# Altium footprint library PcbLib.PcbLib: 59 footprints (part 2 of 4)
Each footprint in its own frame and in the unit in brackets; x right, y up, seen from the top. Pads: shape width x height; smd on the part's side, far side on the other; paste and mask are expansions set on the pad; w line width, h text height; cw(c..) or ccw(c..) is an arc to the next point about the centre after c.
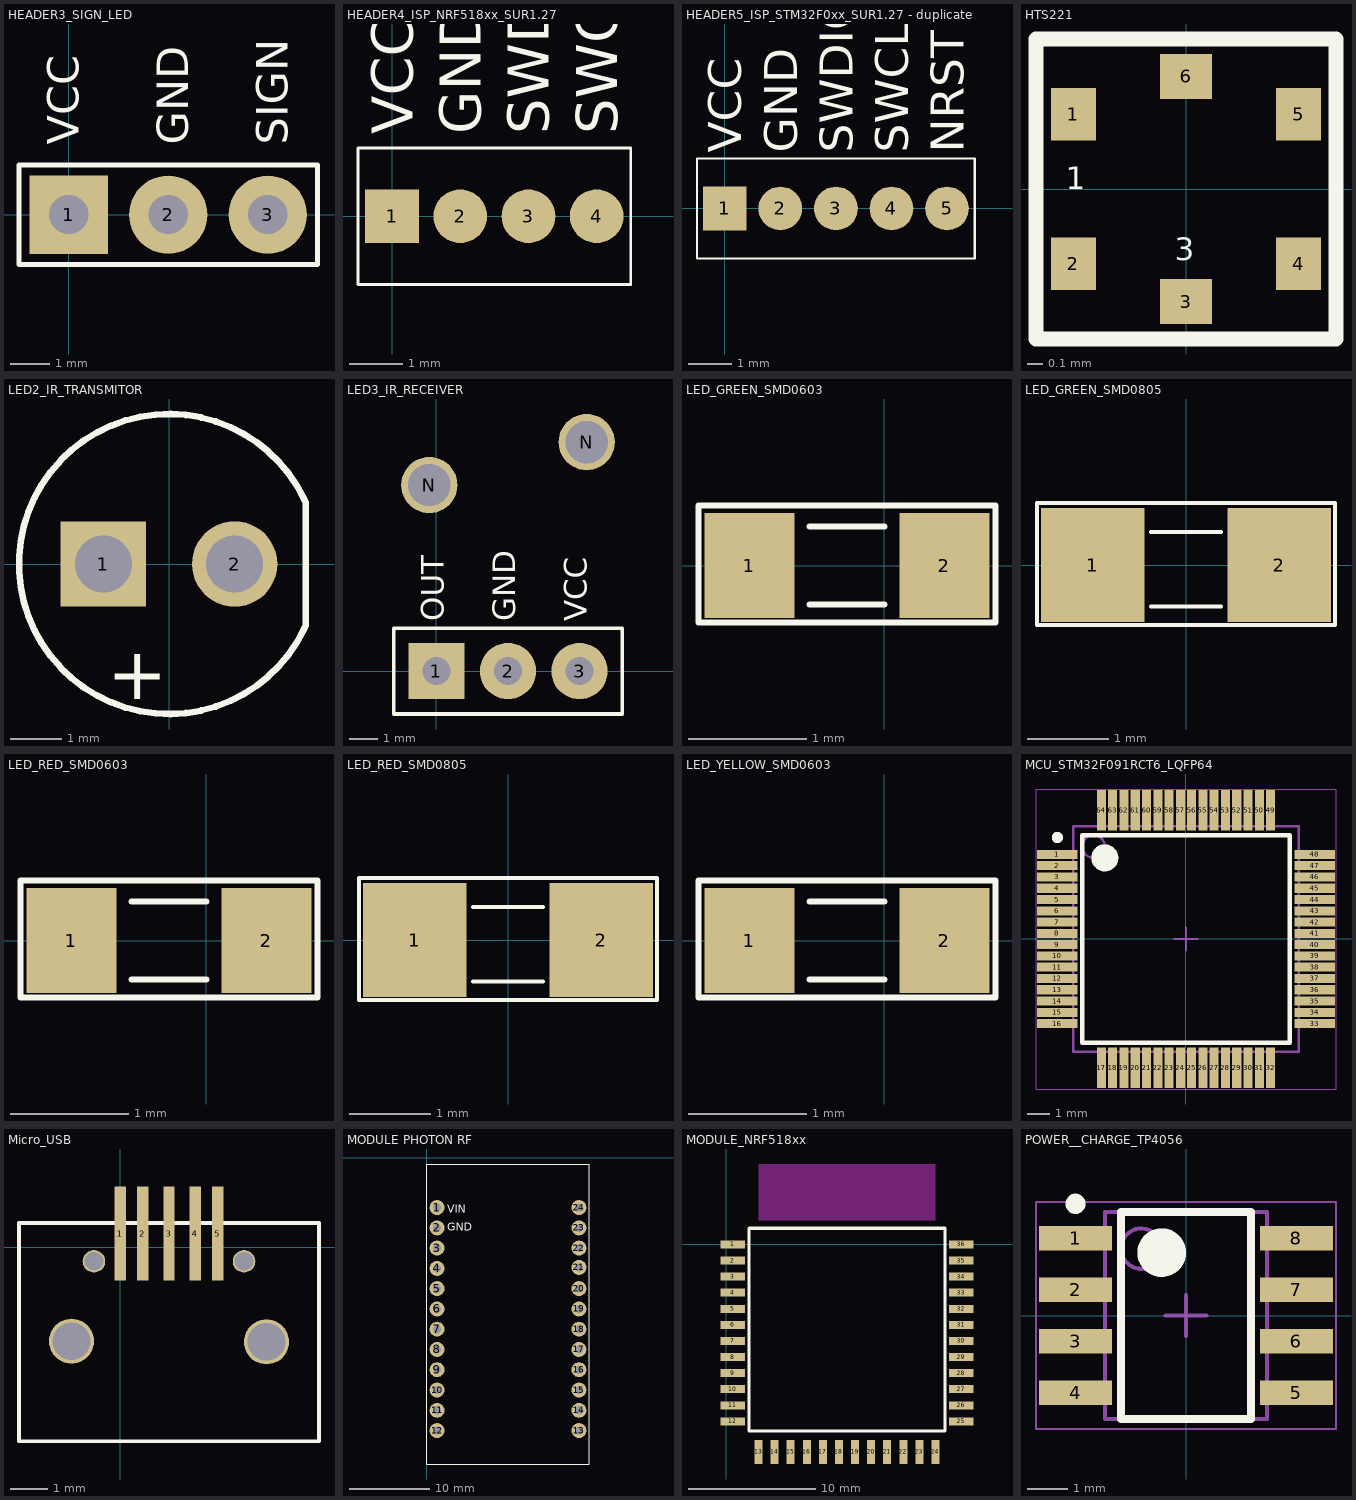
[diagram p1: the footprints below, top view; thin cyan lines are the x and y axes]

## HEADER3_SIGN_LED [mm] "HEADER, SINGLE, DISTANCE = 100mil"
pads (3):
  rect 2x2 hole 1: 1(0,0)
  round 2 hole 1: 2(2.54,0) 3(5.08,0)
Top Overlay:
  lines w0.127: -1.27,-1.27 -1.27,1.27 6.35,1.27 6.35,-1.27 -1.27,-1.27
  text "SIGN" at 5.588,1.778 h0.8
  text "GND" at 3.048,1.778 h0.8
  text "VCC" at 0.254,1.778 h0.8
3D body "User Library-Header_Male_3Pin.STEP": height 8.54, standoff -3, extent -1.27,-1.27 6.35,1.22

## HEADER4_ISP_NRF518xx_SUR1.27 [mm] "HEADER, SINGLE, DISTANCE = 100mil"
pads (4):
  rect 1x1 smd: 1(0,0)
  round 1 smd: 2(1.27,0) 3(2.54,0) 4(3.81,0)
Top Overlay:
  lines w0.051: -0.635,-1.27 4.445,-1.27 4.445,1.27 -0.635,1.27 -0.635,-1.27
  text "SWCLK" at 4.191,1.524 h0.76
  text "SWDIO" at 2.921,1.524 h0.76
  text "GND" at 1.651,1.524 h0.76
  text "VCC" at 0.381,1.524 h0.76
3D body "User Library-PinHeader1_27_2.STEP": height 5, standoff -2.3, extent 1.905,-1.2 4.445,1.2
3D body "User Library-PinHeader1_27_2.STEP": height 5, standoff -2.3, extent -0.635,-1.19 1.905,1.21

## HEADER5_ISP_STM32F0xx_SUR1.27 - duplicate [mm] "HEADER, SINGLE, DISTANCE = 100mil"
pads (5):
  rect 1x1 smd: 1(0,0)
  round 1 smd: 2(1.27,0) 3(2.54,0) 4(3.81,0) 5(5.08,0)
Top Overlay:
  lines w0.051: -0.635,-1.143 -0.635,1.143 5.715,1.143 5.715,-1.143 -0.635,-1.143
  text "VCC" at 0.381,1.27 h0.76
  text "GND" at 1.651,1.27 h0.76
  text "SWDIO" at 2.921,1.27 h0.76
  text "SWCLK" at 4.191,1.27 h0.76
  text "NRST" at 5.461,1.27 h0.76
3D body "User Library-PinHeader1_27_2.STEP": height 5, standoff -2.3, extent -0.635,-1.2 1.905,1.2
3D body "User Library-PinHeader1_27_2.STEP": height 5, standoff -2.3, extent 1.905,-1.2 4.445,1.2

## HTS221 [mm]
pads (6):
  rect 0.3x0.35 smd mask+0.05: 1(-0.75,0.5) 2(-0.75,-0.5) 4(0.75,-0.5) 5(0.75,0.5)
  rect 0.35x0.3 smd mask+0.05: 3(0,-0.75) 6(0,0.75)
Top Overlay:
  lines w0.1: -1,-1 -1,1 1,1 1,-1 -1,-1
  text "3" at -0.075,-0.475 h0.15
  text "1" at -0.8,0 h0.15

## LED2_IR_TRANSMITOR [mil] "LED phi 5mm"
height 649.61
pads (2):
  rect 65x65 hole 43.31: 1(-50,0)
  round 65 hole 43.31: 2(50,0)
Top Overlay:
  lines w5: 103.49,-48.23 cw(c0,0) 103.49,48.23 ; 104,-47 104,46.9
  text "+" at -47,-103 h40
3D body "User Library-LED5MM.step": height 496.06, standoff -118.11, extent -116.14,-118.13 116.14,114.15

## LED3_IR_RECEIVER [mm] "HEADER, SINGLE, DISTANCE = 100mil"
pads (5):
  rect 2x2 hole 1: 1(0,0)
  round 2 hole 1: 2(2.54,0) 3(5.08,0)
  round 2 hole 1.5: N(-0.254,6.604) N(5.334,8.128)
Top Overlay:
  lines w0.127: -1.524,-1.524 6.604,-1.524 6.604,1.524 -1.524,1.524 -1.524,-1.524
  text "OUT" at 0.254,1.778 h0.8
  text "GND" at 2.794,1.778 h0.8
  text "VCC" at 5.334,1.778 h0.8
3D body "User Library-GP1UE26.step": height 7.1, standoff -3.6, extent -0.704,-0.328 6.096,9.472

## LED_GREEN_SMD0603 [mil] "Compoment SMD 60x30mil"
height 50
pads (2):
  rect 30x35 smd: 1(-45,0) 2(20,0)
Top Overlay:
  lines w2: -25,-13 0,-13 ; -25,13 0,13 ; -62,-19 -52.75,-19 -0.25,-19 37,-19 37,20 -62,20 -62,-19
3D body "User Library-LED_0603_G.STEP": height 23.62, standoff -0.08, extent -46.49,-15.74 16.51,15.75

## LED_GREEN_SMD0805 [mil] "Compoment SMD 80x50mil"
height 50
pads (2):
  rect 50x55 smd: 1(-45,0) 2(45,0)
Top Overlay:
  lines w2: -17,-20 17,-20 ; -17,16 17,16 ; -72,-29 -72,30 72,30 72,-29 -72,-29
3D body "SML-210PTT86.stp": height 31.5, standoff 0, extent -39.36,-24.6 39.38,24.61

## LED_RED_SMD0603 [mil] "Compoment SMD 60x30mil"
height 50
pads (2):
  rect 30x35 smd: 1(-45,0) 2(20,0)
Top Overlay:
  lines w2: -25,-13 0,-13 ; -25,13 0,13 ; -62,-19 -52.75,-19 -0.25,-19 37,-19 37,20 -62,20 -62,-19
3D body "User Library-LED_0603_R.STEP": height 23.62, standoff -0.08, extent -46.49,-15.74 16.51,15.75

## LED_RED_SMD0805 [mil] "Compoment SMD 80x50mil"
height 50
pads (2):
  rect 50x55 smd: 1(-45,0) 2(45,0)
Top Overlay:
  lines w2: -17,-20 17,-20 ; -17,16 17,16 ; -72,-29 -72,30 72,30 72,-29 -72,-29
3D body "User Library-CHIPLED-0805.step": height 35.43, standoff -0.39, extent -41.34,-26.57 41.34,26.58

## LED_YELLOW_SMD0603 [mil] "Compoment SMD 60x30mil"
height 50
pads (2):
  rect 30x35 smd: 1(-45,0) 2(20,0)
Top Overlay:
  lines w2: -25,-13 0,-13 ; -25,13 0,13 ; -62,-19 -52.75,-19 -0.25,-19 37,-19 37,20 -62,20 -62,-19
3D body "User Library-LED_0603_Y.STEP": height 23.62, standoff -0.08, extent -46.49,-15.74 16.51,15.75

## MCU_STM32F091RCT6_LQFP64 [mm] "STM32F091RCT6 LQFP64"
height 1.6
pads (64):
  rect 1.8x0.4 smd: 1(-5.7,3.75) 2(-5.7,3.25) 3(-5.7,2.75) 4(-5.7,2.25) 5(-5.7,1.75) 6(-5.7,1.25) 7(-5.7,0.75) 8(-5.7,0.25) 9(-5.7,-0.25) 10(-5.7,-0.75) 11(-5.7,-1.25) 12(-5.7,-1.75) 13(-5.7,-2.25) 14(-5.7,-2.75) 15(-5.7,-3.25) 16(-5.7,-3.75) 33(5.7,-3.75) 34(5.7,-3.25) 35(5.7,-2.75) 36(5.7,-2.25) 37(5.7,-1.75) 38(5.7,-1.25) 39(5.7,-0.75) 40(5.7,-0.25) 41(5.7,0.25) 42(5.7,0.75) 43(5.7,1.25) 44(5.7,1.75) 45(5.7,2.25) 46(5.7,2.75) 47(5.7,3.25) 48(5.7,3.75)
  rect 0.4x1.8 smd: 17(-3.75,-5.7) 18(-3.25,-5.7) 19(-2.75,-5.7) 20(-2.25,-5.7) 21(-1.75,-5.7) 22(-1.25,-5.7) 23(-0.75,-5.7) 24(-0.25,-5.7) 25(0.25,-5.7) 26(0.75,-5.7) 27(1.25,-5.7) 28(1.75,-5.7) 29(2.25,-5.7) 30(2.75,-5.7) 31(3.25,-5.7) 32(3.75,-5.7) 49(3.75,5.7) 50(3.25,5.7) 51(2.75,5.7) 52(2.25,5.7) 53(1.75,5.7) 54(1.25,5.7) 55(0.75,5.7) 56(0.25,5.7) 57(-0.25,5.7) 58(-0.75,5.7) 59(-1.25,5.7) 60(-1.75,5.7) 61(-2.25,5.7) 62(-2.75,5.7) 63(-3.25,5.7) 64(-3.75,5.7)
Top Overlay:
  circle w0.6: c-3.6,3.6 r0.3
  circle w0.25: c-5.7,4.5 r0.125
  lines w0.2: -4.6,-4.6 4.6,-4.6 4.6,4.6 -4.6,4.6 -4.6,-4.6
Mechanical 13:
  circle w0.1: c-4.1,4.1 r0.5
  lines w0.1: -5,-5 5,-5 5,5 -5,5 -5,-5
Mechanical 15:
  lines w0.05: -6.65,-6.65 6.65,-6.65 6.65,6.65 -6.65,6.65 -6.65,-6.65
  lines w0.1: -0.5,0 0.5,0 ; 0,-0.5 0,0.5
3D body "User Library-LQFP64_Grid_0_5.STEP": height 1.6, standoff 0, extent -6,-6 6,6

## Micro_USB [mm]
pads (9):
  rect 0.3x2.5 smd mask+0.05: 1(0,0.37) 2(0.6,0.37) 3(1.3,0.37) 4(2,0.37) 5(2.6,0.37)
  round 1.2 hole 1 mask+0.05: ""(-1.3,-2.5) ""(3.9,-2.52)
  round 0.6 hole 0.5 mask+0.05: ""(-0.7,-0.37) ""(3.3,-0.37)
Top Overlay:
  lines w0.1: -2.7,-5.17 -2.7,0.65 5.3,0.65 5.3,-5.17 -2.7,-5.17
3D body "User Library-10104111.STEP": height 2.77, standoff -0.3, extent -3.1,-5.116 5.7,0.509

## MODULE PHOTON RF [mil]
pads (24):
  round 74 hole 40: 1(50,-245) 2(50,-345) 3(50,-445) 4(50,-545) 5(50,-645) 6(50,-745) 7(50,-845) 8(50,-945) 9(50,-1045) 10(50,-1145) 11(50,-1245) 12(50,-1345) 13(750,-1345) 14(750,-1245) 15(750,-1145) 16(750,-1045) 17(750,-945) 18(750,-845) 19(750,-745) 20(750,-645) 21(750,-540) 22(750,-445) 23(750,-345) 24(750,-245)
Top Overlay:
  lines w5.12: 0,-1510 0,-30 800,-30 800,-1510 0,-1510
  text "GND" at 100,-360 h40
  text "VIN" at 100,-270 h40
3D body "13345.STEP": height 294, standoff -241.83, extent -1,-1512.2 801,-30

## MODULE_NRF518xx [mil] "MODULE BLE NRF51822 Madeby TUAN ANH"
pads (36):
  rect 75x25 smd: 1(20,0) 2(20,-50) 3(20,-100) 4(20,-150) 5(20,-200) 6(20,-250) 7(20,-300) 8(20,-350) 9(20,-400) 10(20,-450) 11(20,-500) 12(20,-550) 25(730,-550) 26(730,-500) 27(730,-450) 28(730,-400) 29(730,-350) 30(730,-300) 31(730,-250) 32(730,-200) 33(730,-150) 34(730,-100) 35(730,-50) 36(730,0)
  rect 25x75 smd: 13(100,-645) 14(150,-645) 15(200,-645) 16(250,-645) 17(300,-645) 18(350,-645) 19(400,-645) 20(450,-645) 21(500,-645) 22(550,-645) 23(600,-645) 24(650,-645)
Top Overlay:
  lines w10: 70,-580 70,50 680,50 680,-580 70,-580
Keep-Out Layer:
  region: 100,250 100,75 650,75 650,250
3D body: height 19.68, standoff 1.97, extent 20,-10 70,10
3D body: height 19.68, standoff 1.97, extent 20,-60 70,-40
3D body: height 19.68, standoff 1.97, extent 20,-110 70,-90
3D body: height 19.68, standoff 1.97, extent 20,-160 70,-140
3D body: height 19.68, standoff 1.97, extent 20,-210 70,-190
3D body: height 19.68, standoff 1.97, extent 20,-260 70,-240
3D body: height 19.68, standoff 1.97, extent 20,-310 70,-290
3D body: height 19.68, standoff 1.97, extent 20,-360 70,-340
3D body: height 19.68, standoff 1.97, extent 20,-410 70,-390
3D body: height 19.68, standoff 1.97, extent 20,-460 70,-440
3D body: height 19.68, standoff 1.97, extent 20,-510 70,-490
3D body: height 19.68, standoff 1.97, extent 20,-560 70,-540
3D body: height 19.68, standoff 1.97, extent 90,-630 110,-580
3D body: height 19.68, standoff 1.97, extent 140,-630 160,-580
3D body: height 19.68, standoff 1.97, extent 190,-630 210,-580
3D body: height 19.68, standoff 1.97, extent 240,-630 260,-580
3D body: height 19.68, standoff 1.97, extent 290,-630 310,-580
3D body: height 19.68, standoff 1.97, extent 340,-630 360,-580
3D body: height 19.68, standoff 1.97, extent 390,-630 410,-580
3D body: height 19.68, standoff 1.97, extent 440,-630 460,-580
3D body: height 19.68, standoff 1.97, extent 490,-630 510,-580
3D body: height 19.68, standoff 1.97, extent 540,-630 560,-580
3D body: height 19.68, standoff 1.97, extent 590,-630 610,-580
3D body: height 19.68, standoff 1.97, extent 640,-630 660,-580
3D body: height 19.68, standoff 1.97, extent 680,-560 730,-540
3D body: height 19.68, standoff 1.97, extent 680,-510 730,-490
3D body: height 19.68, standoff 1.97, extent 680,-460 730,-440
3D body: height 19.68, standoff 1.97, extent 680,-410 730,-390
3D body: height 19.68, standoff 1.97, extent 680,-360 730,-340
3D body: height 19.68, standoff 1.97, extent 680,-310 730,-290
3D body: height 19.68, standoff 1.97, extent 680,-260 730,-240
3D body: height 19.68, standoff 1.97, extent 680,-210 730,-190
3D body: height 19.68, standoff 1.97, extent 680,-160 730,-140
3D body: height 19.68, standoff 1.97, extent 680,-110 730,-90
3D body: height 19.68, standoff 1.97, extent 680,-60 730,-40
3D body: height 19.68, standoff 1.97, extent 680,-10 730,10
3D body: height 39.37, standoff 1.97, extent 70,-585 680,45
3D body: height 59.06, standoff 41.34, extent 270,-400 470,-200

## POWER__CHARGE_TP4056 [mm] "SOP, 8-Leads, Body 4.90x3.90mm, Pitch 1.27mm, IPC Medium Density"
height 1.75
pads (8):
  rect 1.8x0.6 smd: 1(-2.725,1.905) 2(-2.725,0.635) 3(-2.725,-0.635) 4(-2.725,-1.905) 5(2.725,-1.905) 6(2.725,-0.635) 7(2.725,0.635) 8(2.725,1.905)
Top Overlay:
  circle w0.25: c-2.725,2.755 r0.125
  circle w0.6: c-0.6,1.55 r0.3
  lines w0.2: -1.6,-2.55 -1.6,2.55 1.6,2.55 1.6,-2.55 -1.6,-2.55
Mechanical 13:
  circle w0.1: c-1.1,1.65 r0.5
  lines w0.1: -2,-2.55 -2,2.55 2,2.55 2,-2.55 -2,-2.55
Mechanical 15:
  lines w0.05: -3.7,-2.8 -3.7,2.8 3.7,2.8 3.7,-2.8 -3.7,-2.8
  lines w0.1: -0.5,0 0.5,0 ; 0,-0.5 0,0.5
3D body "User Library-sop-8.step": height 1.6, standoff 0, extent -3.021,-2.51 3.021,2.51